# Altium footprint library PCA9546ADGV.PcbLib: 3 footprints
Each footprint in its own frame and in the unit in brackets; x right, y up, seen from the top. Pads: shape width x height; smd on the part's side, far side on the other; paste and mask are expansions set on the pad; w line width, h text height; cw(c..) or ccw(c..) is an arc to the next point about the centre after c.
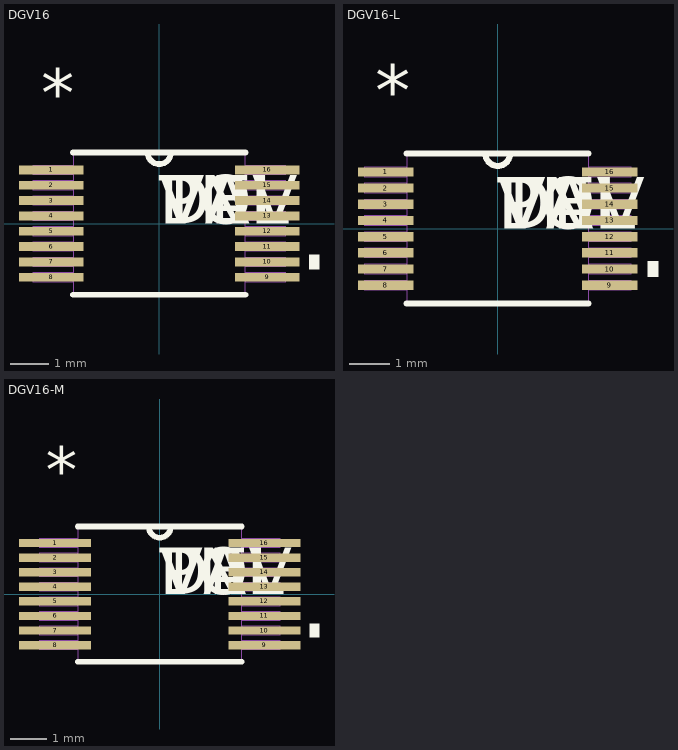
[diagram p0: the footprints below, top view; thin cyan lines are the x and y axes]

## DGV16 [mil]
pads (16):
  rect 66x9 smd: 1(-111,55.12) 2(-111,39.37) 3(-111,23.62) 4(-111,7.87) 5(-111,-7.87) 6(-111,-23.62) 7(-111,-39.37) 8(-111,-55.12) 9(111,-55.12) 10(111,-39.37) 11(111,-23.62) 12(111,-7.87) 13(111,7.87) 14(111,23.62) 15(111,39.37) 16(111,55.12)
Top Overlay:
  region: 154,-31.87 164,-31.87 164,-46.87 154,-46.87
  lines w6: -88.5,-73 88.5,-73 ; -88.5,73 88.5,73 ; -12,73 ccw(c0,73) 12,73
  text "*" at -121,109.12 h50
  text "PN" at 0,0 h50
  text "DEV" at 0,0 h50
  text "VAL" at 0,0 h50
  text "TOL" at 0,0 h50
Mechanical 1:
  lines w0: -12,73 ccw(c0,73) 12,73 ; -130,-59.62 -130,-50.62 -88.5,-50.62 -88.5,-59.62 -130,-59.62 ; -130,-43.87 -130,-34.87 -88.5,-34.87 -88.5,-43.87 -130,-43.87 ; -130,-28.12 -130,-19.12 -88.5,-19.12 -88.5,-28.12 -130,-28.12 ; -130,-12.37 -130,-3.37 -88.5,-3.37 -88.5,-12.37 -130,-12.37 ; -130,3.37 -130,12.37 -88.5,12.37 -88.5,3.37 -130,3.37 ; -130,19.12 -130,28.12 -88.5,28.12 -88.5,19.12 -130,19.12 ; -130,34.87 -130,43.87 -88.5,43.87 -88.5,34.87 -130,34.87 ; -130,50.62 -130,59.62 -88.5,59.62 -88.5,50.62 -130,50.62 ; -88.5,-73 88.5,-73 88.5,73 -88.5,73 -88.5,-73 ; 88.5,-59.62 88.5,-50.62 130,-50.62 130,-59.62 88.5,-59.62 ; 88.5,-43.87 88.5,-34.87 130,-34.87 130,-43.87 88.5,-43.87 ; 88.5,-28.12 88.5,-19.12 130,-19.12 130,-28.12 88.5,-28.12 ; 88.5,-12.37 88.5,-3.37 130,-3.37 130,-12.37 88.5,-12.37 ; 88.5,3.37 88.5,12.37 130,12.37 130,3.37 88.5,3.37 ; 88.5,19.12 88.5,28.12 130,28.12 130,19.12 88.5,19.12 ; 88.5,34.87 88.5,43.87 130,43.87 130,34.87 88.5,34.87 ; 88.5,50.62 88.5,59.62 130,59.62 130,50.62 88.5,50.62
  text "*" at -121,109.12 h50
  text "RefDes2" at 0,0 h50

## DGV16-L [mil]
pads (16):
  rect 54x9 smd: 1(-109,55.12) 2(-109,39.37) 3(-109,23.62) 4(-109,7.87) 5(-109,-7.87) 6(-109,-23.62) 7(-109,-39.37) 8(-109,-55.12) 9(109,-55.12) 10(109,-39.37) 11(109,-23.62) 12(109,-7.87) 13(109,7.87) 14(109,23.62) 15(109,39.37) 16(109,55.12)
Top Overlay:
  region: 146,-31.87 156,-31.87 156,-46.87 146,-46.87
  lines w6: -88.5,-73 88.5,-73 ; -88.5,73 88.5,73 ; -12,73 ccw(c0,73) 12,73
  text "*" at -119,109.12 h50
  text "PN" at 0,0 h50
  text "DEV" at 0,0 h50
  text "VAL" at 0,0 h50
  text "TOL" at 0,0 h50
Mechanical 1:
  lines w0: -12,73 ccw(c0,73) 12,73 ; -130,-59.62 -130,-50.62 -88.5,-50.62 -88.5,-59.62 -130,-59.62 ; -130,-43.87 -130,-34.87 -88.5,-34.87 -88.5,-43.87 -130,-43.87 ; -130,-28.12 -130,-19.12 -88.5,-19.12 -88.5,-28.12 -130,-28.12 ; -130,-12.37 -130,-3.37 -88.5,-3.37 -88.5,-12.37 -130,-12.37 ; -130,3.37 -130,12.37 -88.5,12.37 -88.5,3.37 -130,3.37 ; -130,19.12 -130,28.12 -88.5,28.12 -88.5,19.12 -130,19.12 ; -130,34.87 -130,43.87 -88.5,43.87 -88.5,34.87 -130,34.87 ; -130,50.62 -130,59.62 -88.5,59.62 -88.5,50.62 -130,50.62 ; -88.5,-73 88.5,-73 88.5,73 -88.5,73 -88.5,-73 ; 88.5,-59.62 88.5,-50.62 130,-50.62 130,-59.62 88.5,-59.62 ; 88.5,-43.87 88.5,-34.87 130,-34.87 130,-43.87 88.5,-43.87 ; 88.5,-28.12 88.5,-19.12 130,-19.12 130,-28.12 88.5,-28.12 ; 88.5,-12.37 88.5,-3.37 130,-3.37 130,-12.37 88.5,-12.37 ; 88.5,3.37 88.5,12.37 130,12.37 130,3.37 88.5,3.37 ; 88.5,19.12 88.5,28.12 130,28.12 130,19.12 88.5,19.12 ; 88.5,34.87 88.5,43.87 130,43.87 130,34.87 88.5,34.87 ; 88.5,50.62 88.5,59.62 130,59.62 130,50.62 88.5,50.62
  text "*" at -119,109.12 h50
  text "RefDes2" at 0,0 h50

## DGV16-M [mil]
pads (16):
  rect 78x9 smd: 1(-113,55.12) 2(-113,39.37) 3(-113,23.62) 4(-113,7.87) 5(-113,-7.87) 6(-113,-23.62) 7(-113,-39.37) 8(-113,-55.12) 9(113,-55.12) 10(113,-39.37) 11(113,-23.62) 12(113,-7.87) 13(113,7.87) 14(113,23.62) 15(113,39.37) 16(113,55.12)
Top Overlay:
  region: 162,-31.87 172,-31.87 172,-46.87 162,-46.87
  lines w6: -88.5,-73 88.5,-73 ; -88.5,73 88.5,73 ; -12,73 ccw(c0,73) 12,73
  text "*" at -123,109.12 h50
  text "PN" at 0,0 h50
  text "DEV" at 0,0 h50
  text "VAL" at 0,0 h50
  text "TOL" at 0,0 h50
Mechanical 1:
  lines w0: -12,73 ccw(c0,73) 12,73 ; -130,-59.62 -130,-50.62 -88.5,-50.62 -88.5,-59.62 -130,-59.62 ; -130,-43.87 -130,-34.87 -88.5,-34.87 -88.5,-43.87 -130,-43.87 ; -130,-28.12 -130,-19.12 -88.5,-19.12 -88.5,-28.12 -130,-28.12 ; -130,-12.37 -130,-3.37 -88.5,-3.37 -88.5,-12.37 -130,-12.37 ; -130,3.37 -130,12.37 -88.5,12.37 -88.5,3.37 -130,3.37 ; -130,19.12 -130,28.12 -88.5,28.12 -88.5,19.12 -130,19.12 ; -130,34.87 -130,43.87 -88.5,43.87 -88.5,34.87 -130,34.87 ; -130,50.62 -130,59.62 -88.5,59.62 -88.5,50.62 -130,50.62 ; -88.5,-73 88.5,-73 88.5,73 -88.5,73 -88.5,-73 ; 88.5,-59.62 88.5,-50.62 130,-50.62 130,-59.62 88.5,-59.62 ; 88.5,-43.87 88.5,-34.87 130,-34.87 130,-43.87 88.5,-43.87 ; 88.5,-28.12 88.5,-19.12 130,-19.12 130,-28.12 88.5,-28.12 ; 88.5,-12.37 88.5,-3.37 130,-3.37 130,-12.37 88.5,-12.37 ; 88.5,3.37 88.5,12.37 130,12.37 130,3.37 88.5,3.37 ; 88.5,19.12 88.5,28.12 130,28.12 130,19.12 88.5,19.12 ; 88.5,34.87 88.5,43.87 130,43.87 130,34.87 88.5,34.87 ; 88.5,50.62 88.5,59.62 130,59.62 130,50.62 88.5,50.62
  text "*" at -123,109.12 h50
  text "RefDes2" at 0,0 h50